# Altium schematic symbol library JFET.SchLib: 1 symbol
Pins are listed as number, name and electrical type; pins without a type are passive.

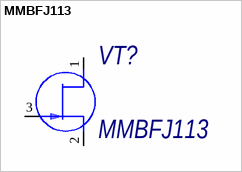
[diagram p0: symbol MMBFJ113]

## MMBFJ113
designator VT?
Транзистор JFET; ChannelType: N-канал; ComponentType: Транзистор JFET; ComponentDescription: =ComponentType+', '+ChannelType+', '+Comment+', '+Package
footprint SOT-23-3 (SOT23, 3-Leads, Body 2,90x2,30mm, Pitch 0,95mm, IPC Medium Density)
pins: 1 D, 2 S, 3 G